# Altium footprint library BNC_Pcb.PcbLib: 1 footprints
Each footprint in its own frame and in the unit in brackets; x right, y up, seen from the top. Pads: shape width x height; smd on the part's side, far side on the other; paste and mask are expansions set on the pad; w line width, h text height; cw(c..) or ccw(c..) is an arc to the next point about the centre after c.
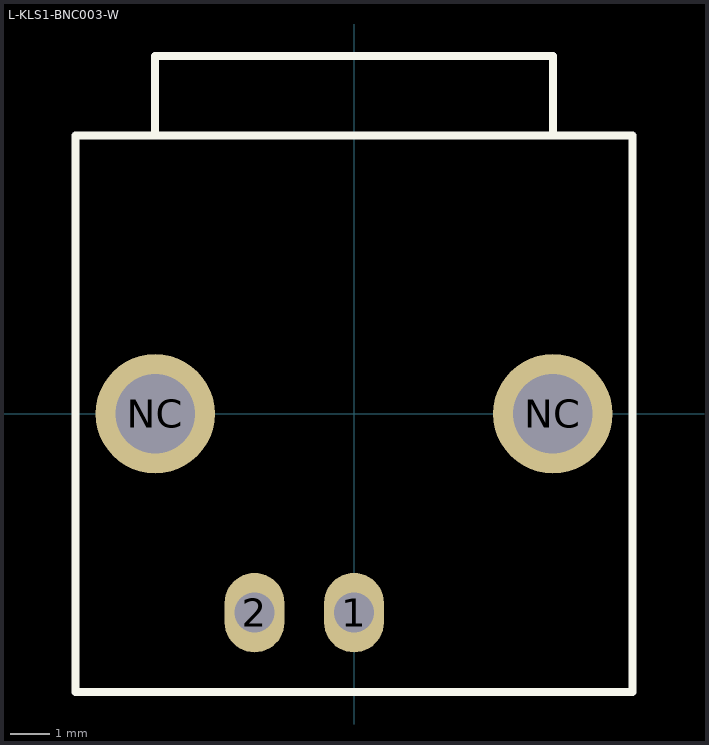
[diagram p0: the footprint, top view; thin cyan lines are the x and y axes]

## L-KLS1-BNC003-W [mm]
pads (4):
  oval 1.5x2 hole 1: 1(0,-5) 2(-2.5,-5)
  round 3 hole 2: NC(-5,0) NC(5,0)
Top Overlay:
  lines w0.2: -5,7 -5,9 5,9 5,7 ; -7,-7 -7,0 -7,7 7,7 7,-7 -7,-7
3D body "5227677-1.stp": height 15.89, standoff -4.1, extent -7.379,-7 7.379,28.56